# EAGLE library part MC-ASK-1 (library 1A-meinLib)
Diodenringmodulator, Mini-Circuits
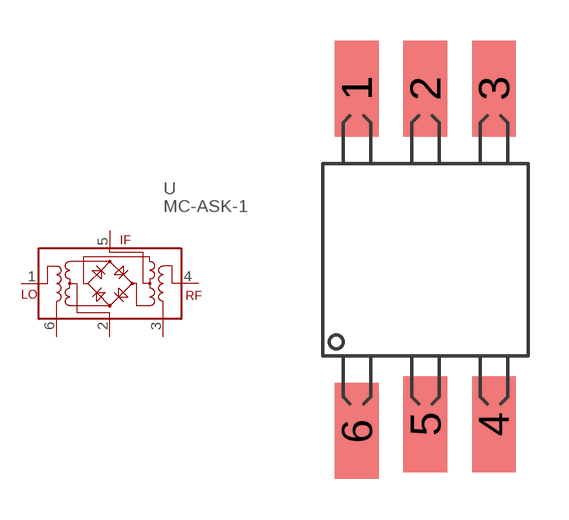
[diagram p155: symbol with the pads of MC_W38-SMD; footprint MC_W38-SMD]

Designator prefix U

## MC-ASK-1  [MC_W38-SMD]
1  LO  pas
2  P$5  pas
3  P$4  pas
4  RF  pas
5  IF  pas
6  P$3  pas

## Footprint MC_W38-SMD (pad centres in mm)
smd 1.626 x 3.556: 1 -2.54,6.35; 2 0,6.35; 3 2.54,6.35; 4 2.54,-6.096; 5 0,-6.096; 6 -2.54,-6.35